# Altium schematic symbol library RF_RFID.SchLib: 2 symbols
Pins are listed as number, name and electrical type; pins without a type are passive.

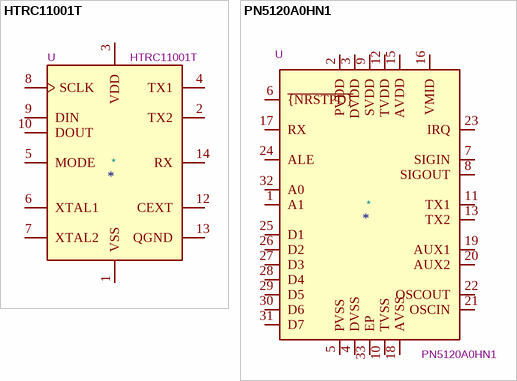
[diagram p0: symbols HTRC11001T to PN5120A0HN1]

## HTRC11001T
designator *  value HTRC11001T  Reference: U
ki_keywords: HITAG RFID; ki_description: HITAG RF Reader Device, SOIC-14; ki_fp_filters: SOIC*3.9x8.7mm*P1.27mm*; Footprint: Package_SO:SOIC-14_3.9x8.7mm_P1.27mm; Datasheet: https://www.nxp.com/docs/en/data-sheet/037031.pdf
pins: 1 VSS, 2 TX2, 3 VDD, 4 TX1, 5 MODE, 6 XTAL1, 7 XTAL2, 8 SCLK, 9 DIN, 10 DOUT, 12 CEXT, 13 QGND, 14 RX

## PN5120A0HN1
designator *  value PN5120A0HN1  Reference: U
ki_keywords: PN512 RFID; ki_description: NFC frontend.  ISO/IEC 14443A&B, MIFARE®, FeliCa and NFC Forum tag types, HVQFN-32; ki_fp_filters: HVQFN*1EP*5x5mm*P0.5mm*; Footprint: Package_DFN_QFN:HVQFN-32-1EP_5x5mm_P0.5mm_EP3.1x3.1mm; Datasheet: https://www.nxp.com/docs/en/data-sheet/PN512.pdf
pins: 1 A1, 2 PVDD, 3 DVDD, 4 DVSS, 5 PVSS, 6 ~{{NRSTPD}}, 7 SIGIN, 8 SIGOUT, 9 SVDD, 10 TVSS, 11 TX1, 12 TVDD, 13 TX2, 14 TVSS hidden, 15 AVDD, 16 VMID, 17 RX, 18 AVSS, 19 AUX1, 20 AUX2, 21 OSCIN, 22 OSCOUT, 23 IRQ, 24 ALE, 25 D1, 26 D2, 27 D3, 28 D4, 29 D5, 30 D6, 31 D7, 32 A0, 33 EP